# Altium integrated library Renesas Microprocessor SuperH.IntLib: 433 symbols (part 54 of 62)
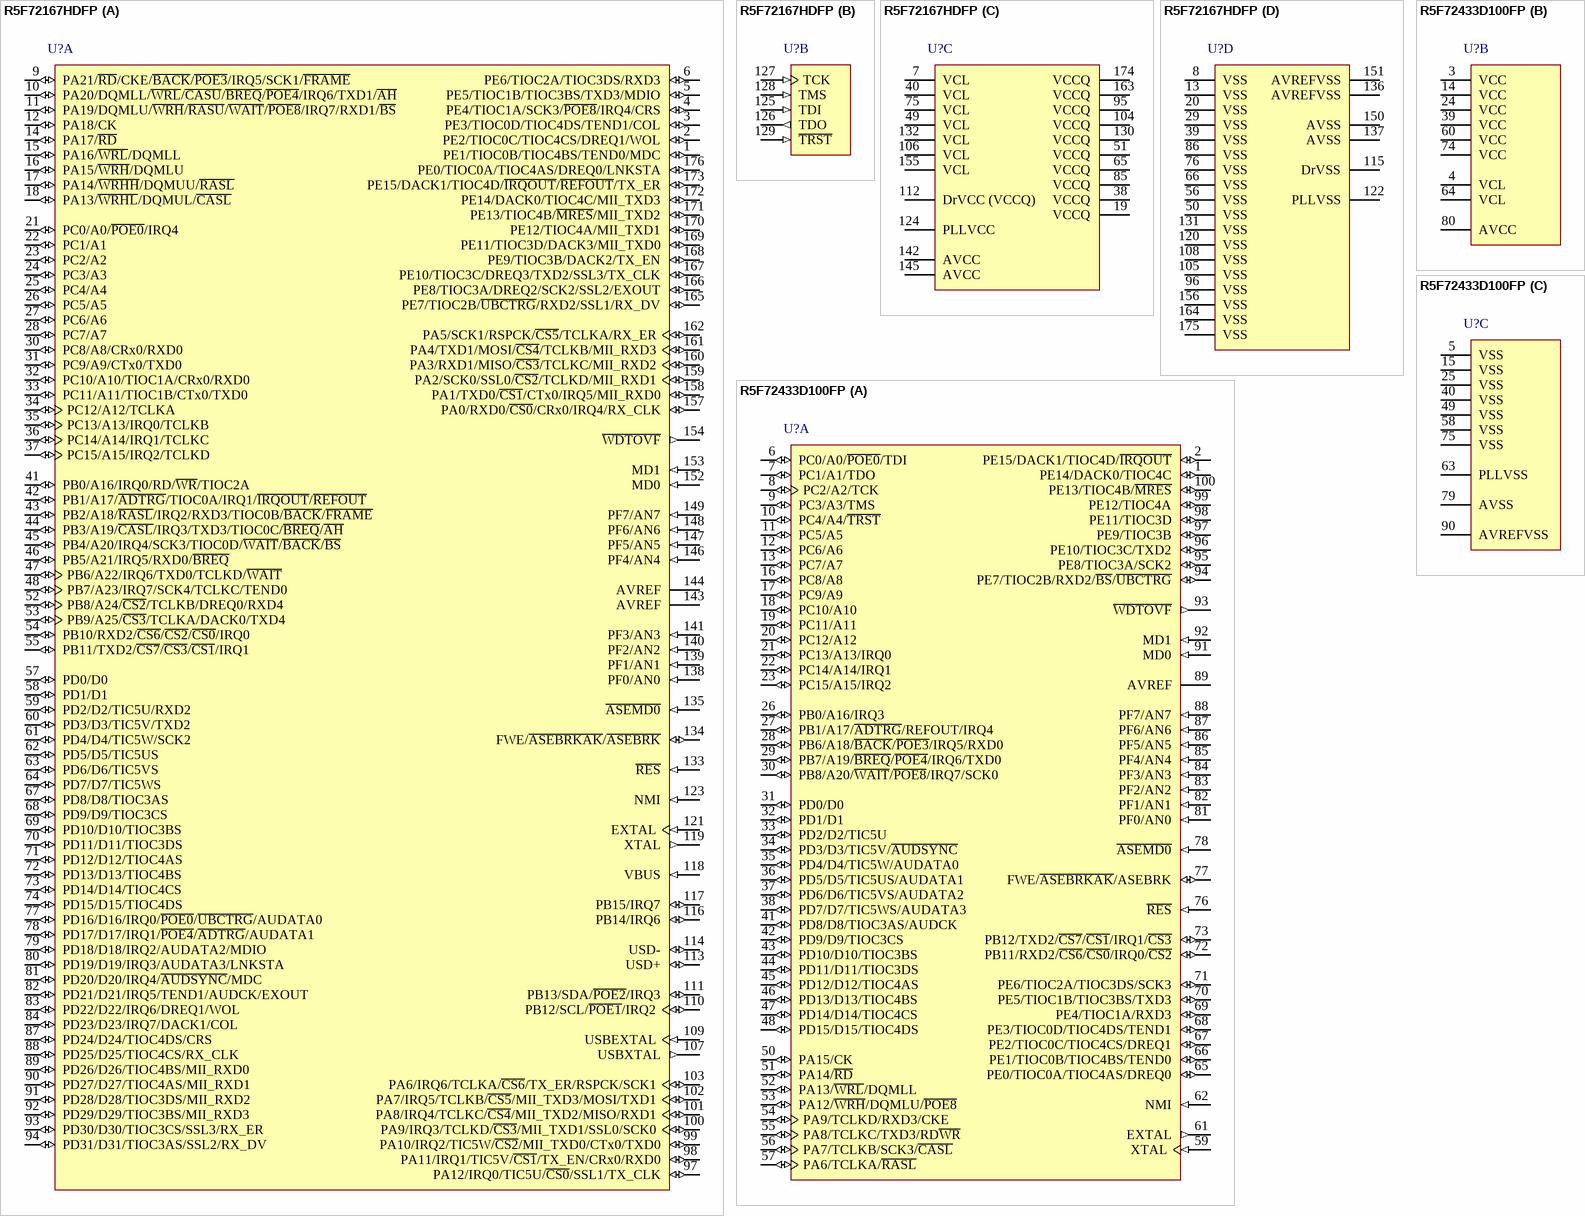
[diagram p412: symbols R5F72167HDFP to R5F72433D100FP]

## R5F72433D100FP
designator U?
32-Bit RISC Microcomputer, SH7243 Series, SH-2A core, 100MHz, 128K ROM, 8K RAM, 100-pin PLQFP, -40 to 85°C; Published: 28-Aug-2009; DatasheetVersion: Rev.1.00, Jun-2008; PackageVersion: Sep-2005; PackageReference: PLQP0100KB-A; Publisher: Altium Limited; PackageDescription: 100-Pin Plastic Low Profile QFP, 14 x 14 x 1.4 mm Body, 0.5 mm Pitch; Code_JEITA: P-LQFP100-14x14-0.50; Code_IPC: SQFP50P1600X1600-100; ComponentLink1Description: Manufacturer Link; ComponentLink1URL: http://www.renesas.com/fmwk.jsp?cnt=sh7243_root.jsp&fp=/products/mpumcu/superh_family/sh7243_series/sh7243_group/; ComponentLink2Description: Datasheet; ComponentLink2URL: http://documentation.renesas.com/eng/products/mpumcu/rej09b0393_sh7280hm.pdf; ComponentLink3Description: Packaging Specification; ComponentLink3URL: http://sg.renesas.com/media/products/common_info/package/pdf/ic/code/plqp0100kb_a.pdf
footprint PLQP0100KB-A_N (Shrink QFP, 100-Leads, Body 14x14mm, Pitch 0.5mm, IPC Medium Density)
footprint PLQP0100KB-A_L (Shrink QFP, 100-Leads, Body 14x14mm, Pitch 0.5mm, IPC High Density)
footprint PLQP0100KB-A_M (Shrink QFP, 100-Leads, Body 14x14mm, Pitch 0.5mm, IPC Low Density)
part A pins: 1 PE14/DACK0/TIOC4C (io), 2 PE15/DACK1/TIOC4D/~{IRQOUT} (io), 6 PC0/A0/~{POE0}/TDI (io), 7 PC1/A1/TDO (io), 8 PC2/A2/TCK (io), 9 PC3/A3/TMS (io), 10 PC4/A4/~{TRST} (io), 11 PC5/A5 (io), 12 PC6/A6 (io), 13 PC7/A7 (io), 16 PC8/A8 (io), 17 PC9/A9 (io), 18 PC10/A10 (io), 19 PC11/A11 (io), 20 PC12/A12 (io), 21 PC13/A13/IRQ0 (io), 22 PC14/A14/IRQ1 (io), 23 PC15/A15/IRQ2 (io), 26 PB0/A16/IRQ3 (io), 27 PB1/A17/~{ADTRG}/REFOUT/IRQ4 (io), 28 PB6/A18/~{BACK}/~{POE3}/IRQ5/RXD0 (io), 29 PB7/A19/~{BREQ}/~{POE4}/IRQ6/TXD0 (io), 30 PB8/A20/~{WAIT}/~{POE8}/IRQ7/SCK0 (io), 31 PD0/D0 (io), 32 PD1/D1 (io), 33 PD2/D2/TIC5U (io), 34 PD3/D3/TIC5V/~{AUDSYNC} (io), 35 PD4/D4/TIC5W/AUDATA0 (io), 36 PD5/D5/TIC5US/AUDATA1 (io), 37 PD6/D6/TIC5VS/AUDATA2 (io), 38 PD7/D7/TIC5WS/AUDATA3 (io), 41 PD8/D8/TIOC3AS/AUDCK (io), 42 PD9/D9/TIOC3CS (io), 43 PD10/D10/TIOC3BS (io), 44 PD11/D11/TIOC3DS (io), 45 PD12/D12/TIOC4AS (io), 46 PD13/D13/TIOC4BS (io), 47 PD14/D14/TIOC4CS (io), 48 PD15/D15/TIOC4DS (io), 50 PA15/CK (io), 51 PA14/~{RD} (io), 52 PA13/~{WRL}/DQMLL (io), 53 PA12/~{WRH}/DQMLU/~{POE8} (io), 54 PA9/TCLKD/RXD3/CKE (io), 55 PA8/TCLKC/TXD3/RD~{WR} (io), 56 PA7/TCLKB/SCK3/~{CASL} (io), 57 PA6/TCLKA/~{RASL} (io), 59 XTAL (in), 61 EXTAL (out), 62 NMI (in), 65 PE0/TIOC0A/TIOC4AS/DREQ0 (io), 66 PE1/TIOC0B/TIOC4BS/TEND0 (io), 67 PE2/TIOC0C/TIOC4CS/DREQ1 (io), 68 PE3/TIOC0D/TIOC4DS/TEND1 (io), 69 PE4/TIOC1A/RXD3 (io), 70 PE5/TIOC1B/TIOC3BS/TXD3 (io), 71 PE6/TIOC2A/TIOC3DS/SCK3 (io), 72 PB11/RXD2/~{CS6}/~{CS0}/IRQ0/~{CS2} (io), 73 PB12/TXD2/~{CS7}/~{CS1}/IRQ1/~{CS3} (io), 76 ~{RES} (in), 77 FWE/~{ASEBRKAK}/ASEBRK (io), 78 ~{ASEMD0} (in), 81 PF0/AN0 (in), 82 PF1/AN1 (in), 83 PF2/AN2 (in), 84 PF3/AN3 (in), 85 PF4/AN4 (in), 86 PF5/AN5 (in), 87 PF6/AN6 (in), 88 PF7/AN7 (in), 89 AVREF (power), 91 MD0 (in), 92 MD1 (in), 93 ~{WDTOVF} (out), 94 PE7/TIOC2B/RXD2/~{BS}/~{UBCTRG} (io), 95 PE8/TIOC3A/SCK2 (io), 96 PE10/TIOC3C/TXD2 (io), 97 PE9/TIOC3B (io), 98 PE11/TIOC3D (io), 99 PE12/TIOC4A (io), 100 PE13/TIOC4B/~{MRES} (io)
part B pins: 3 VCC (power), 4 VCL (power), 14 VCC (power), 24 VCC (power), 39 VCC (power), 60 VCC (power), 64 VCL (power), 74 VCC (power), 80 AVCC (power)
part C pins: 5 VSS (power), 15 VSS (power), 25 VSS (power), 40 VSS (power), 49 VSS (power), 58 VSS (power), 63 PLLVSS (power), 75 VSS (power), 79 AVSS (power), 90 AVREFVSS (power)

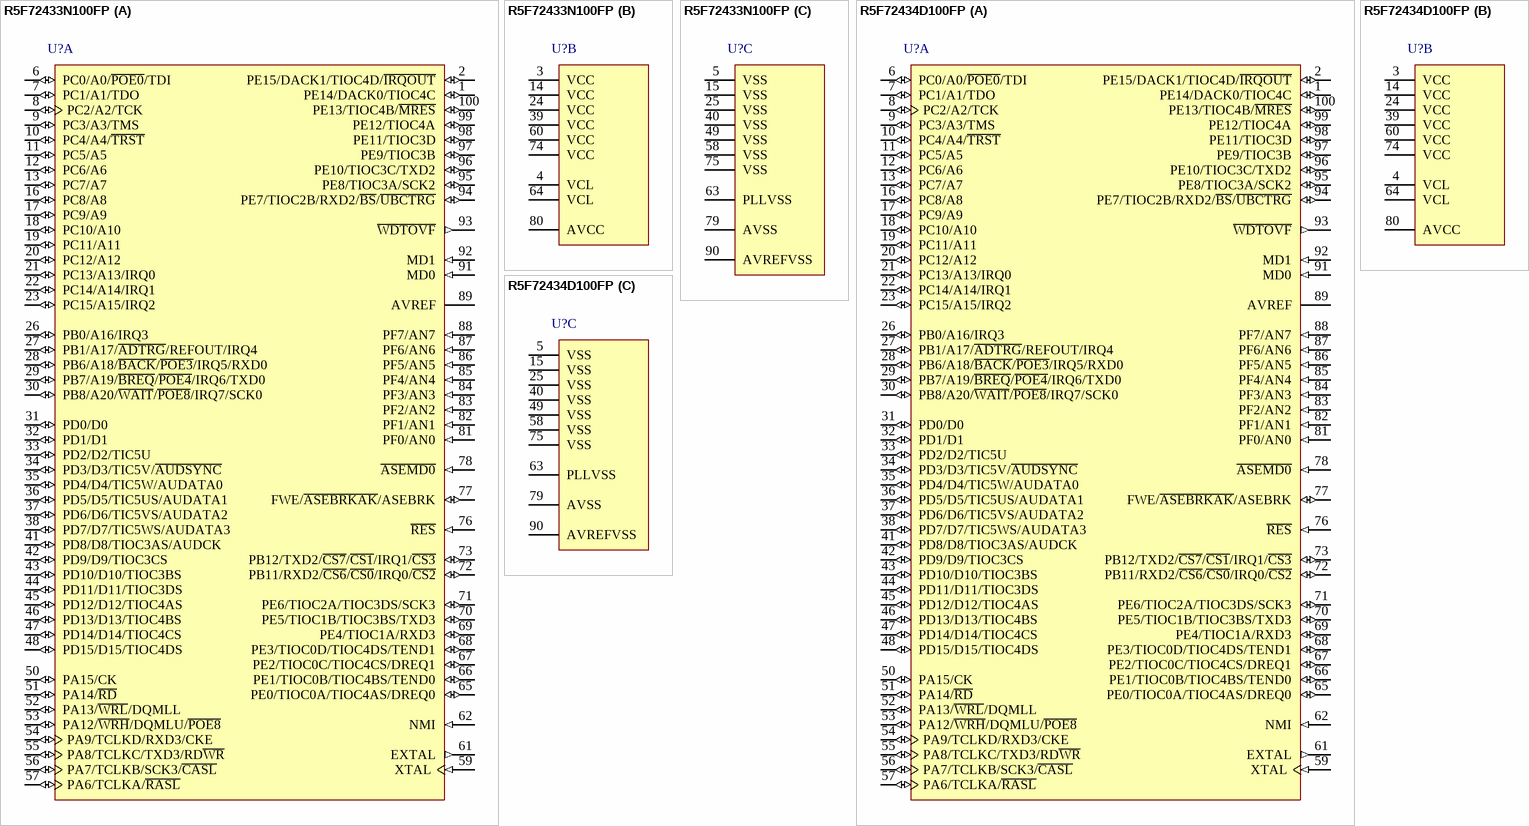
[diagram p183: symbols R5F72433N100FP to R5F72434D100FP]

## R5F72433N100FP
designator U?
32-Bit RISC Microcomputer, SH7243 Series, SH-2A core, 100MHz, 128K ROM, 8K RAM, 100-pin PLQFP, -20 to 85°C; Published: 28-Aug-2009; DatasheetVersion: Rev.1.00, Jun-2008; PackageVersion: Sep-2005; PackageReference: PLQP0100KB-A; Publisher: Altium Limited; PackageDescription: 100-Pin Plastic Low Profile QFP, 14 x 14 x 1.4 mm Body, 0.5 mm Pitch; Code_JEITA: P-LQFP100-14x14-0.50; Code_IPC: SQFP50P1600X1600-100; ComponentLink1Description: Manufacturer Link; ComponentLink1URL: http://www.renesas.com/fmwk.jsp?cnt=sh7243_root.jsp&fp=/products/mpumcu/superh_family/sh7243_series/sh7243_group/; ComponentLink2Description: Datasheet; ComponentLink2URL: http://documentation.renesas.com/eng/products/mpumcu/rej09b0393_sh7280hm.pdf; ComponentLink3Description: Packaging Specification; ComponentLink3URL: http://sg.renesas.com/media/products/common_info/package/pdf/ic/code/plqp0100kb_a.pdf
footprint PLQP0100KB-A_N (Shrink QFP, 100-Leads, Body 14x14mm, Pitch 0.5mm, IPC Medium Density)
footprint PLQP0100KB-A_L (Shrink QFP, 100-Leads, Body 14x14mm, Pitch 0.5mm, IPC High Density)
footprint PLQP0100KB-A_M (Shrink QFP, 100-Leads, Body 14x14mm, Pitch 0.5mm, IPC Low Density)
part A pins: 1 PE14/DACK0/TIOC4C (io), 2 PE15/DACK1/TIOC4D/~{IRQOUT} (io), 6 PC0/A0/~{POE0}/TDI (io), 7 PC1/A1/TDO (io), 8 PC2/A2/TCK (io), 9 PC3/A3/TMS (io), 10 PC4/A4/~{TRST} (io), 11 PC5/A5 (io), 12 PC6/A6 (io), 13 PC7/A7 (io), 16 PC8/A8 (io), 17 PC9/A9 (io), 18 PC10/A10 (io), 19 PC11/A11 (io), 20 PC12/A12 (io), 21 PC13/A13/IRQ0 (io), 22 PC14/A14/IRQ1 (io), 23 PC15/A15/IRQ2 (io), 26 PB0/A16/IRQ3 (io), 27 PB1/A17/~{ADTRG}/REFOUT/IRQ4 (io), 28 PB6/A18/~{BACK}/~{POE3}/IRQ5/RXD0 (io), 29 PB7/A19/~{BREQ}/~{POE4}/IRQ6/TXD0 (io), 30 PB8/A20/~{WAIT}/~{POE8}/IRQ7/SCK0 (io), 31 PD0/D0 (io), 32 PD1/D1 (io), 33 PD2/D2/TIC5U (io), 34 PD3/D3/TIC5V/~{AUDSYNC} (io), 35 PD4/D4/TIC5W/AUDATA0 (io), 36 PD5/D5/TIC5US/AUDATA1 (io), 37 PD6/D6/TIC5VS/AUDATA2 (io), 38 PD7/D7/TIC5WS/AUDATA3 (io), 41 PD8/D8/TIOC3AS/AUDCK (io), 42 PD9/D9/TIOC3CS (io), 43 PD10/D10/TIOC3BS (io), 44 PD11/D11/TIOC3DS (io), 45 PD12/D12/TIOC4AS (io), 46 PD13/D13/TIOC4BS (io), 47 PD14/D14/TIOC4CS (io), 48 PD15/D15/TIOC4DS (io), 50 PA15/CK (io), 51 PA14/~{RD} (io), 52 PA13/~{WRL}/DQMLL (io), 53 PA12/~{WRH}/DQMLU/~{POE8} (io), 54 PA9/TCLKD/RXD3/CKE (io), 55 PA8/TCLKC/TXD3/RD~{WR} (io), 56 PA7/TCLKB/SCK3/~{CASL} (io), 57 PA6/TCLKA/~{RASL} (io), 59 XTAL (in), 61 EXTAL (out), 62 NMI (in), 65 PE0/TIOC0A/TIOC4AS/DREQ0 (io), 66 PE1/TIOC0B/TIOC4BS/TEND0 (io), 67 PE2/TIOC0C/TIOC4CS/DREQ1 (io), 68 PE3/TIOC0D/TIOC4DS/TEND1 (io), 69 PE4/TIOC1A/RXD3 (io), 70 PE5/TIOC1B/TIOC3BS/TXD3 (io), 71 PE6/TIOC2A/TIOC3DS/SCK3 (io), 72 PB11/RXD2/~{CS6}/~{CS0}/IRQ0/~{CS2} (io), 73 PB12/TXD2/~{CS7}/~{CS1}/IRQ1/~{CS3} (io), 76 ~{RES} (in), 77 FWE/~{ASEBRKAK}/ASEBRK (io), 78 ~{ASEMD0} (in), 81 PF0/AN0 (in), 82 PF1/AN1 (in), 83 PF2/AN2 (in), 84 PF3/AN3 (in), 85 PF4/AN4 (in), 86 PF5/AN5 (in), 87 PF6/AN6 (in), 88 PF7/AN7 (in), 89 AVREF (power), 91 MD0 (in), 92 MD1 (in), 93 ~{WDTOVF} (out), 94 PE7/TIOC2B/RXD2/~{BS}/~{UBCTRG} (io), 95 PE8/TIOC3A/SCK2 (io), 96 PE10/TIOC3C/TXD2 (io), 97 PE9/TIOC3B (io), 98 PE11/TIOC3D (io), 99 PE12/TIOC4A (io), 100 PE13/TIOC4B/~{MRES} (io)
part B pins: 3 VCC (power), 4 VCL (power), 14 VCC (power), 24 VCC (power), 39 VCC (power), 60 VCC (power), 64 VCL (power), 74 VCC (power), 80 AVCC (power)
part C pins: 5 VSS (power), 15 VSS (power), 25 VSS (power), 40 VSS (power), 49 VSS (power), 58 VSS (power), 63 PLLVSS (power), 75 VSS (power), 79 AVSS (power), 90 AVREFVSS (power)